# EAGLE library part TPS62086 (library Eagle_CAD_parts)
IC REG BUCK 3.3V 3A • DCS-Control™ Topology • Up to 95% Efficiency • Hiccup Short-Circuit Protection • Power Save Mode for Light Load Efficiency • 100% Duty Cycle for Lowest Dropout • 2.5-V to 6.0-V Input Voltage Range • 17-μA Operating Quiescent Current • 0.8-V to VIN Adjustable Output Voltage • 1.8-V and 3.3-V Fixed Output Voltage • Output Discharge • Power Good Output • Thermal Shutdown Protection
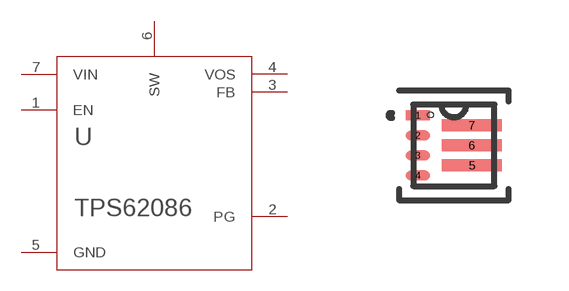
[diagram p17: symbol with the pads of 7-VSON; footprint 7-VSON]

Designator prefix U

## TPS62086  [7-VSON]
1  EN  in
2  PG  out
3  FB  in
4  VOS  in
5  GND  pwr
6  SW  pwr
7  VIN  pwr

## Footprint 7-VSON (pad centres in mm)
smd 0.61 x 0.254: 1 -0.9,0.75; 2 -0.9,0.25; 3 -0.9,-0.25; 4 -0.9,-0.75
smd 1.499 x 0.305: 5 0.45,-0.5; 6 0.45,0; 7 0.45,0.5